# EAGLE library part ARDUINO_FTDI_CONN (library modular_robot_parts)
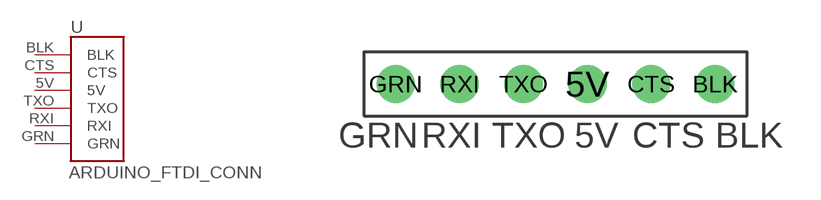
[diagram p4: symbol with the pads of ARDUINO_FTDI_CONN; footprint ARDUINO_FTDI_CONN]

Designator prefix -

## ARDUINO_FTDI_CONN  [ARDUINO_FTDI_CONN]
5V  5V
BLK  BLK
CTS  CTS
GRN  GRN
RXI  RXI
TXO  TXO

## Footprint ARDUINO_FTDI_CONN (pad centres in mm)
drill 1.016 round: 5V 1.27,0; BLK 6.35,0; CTS 3.81,0; GRN -6.35,0; RXI -3.81,0; TXO -1.27,0